# EAGLE library part ARDUINO_MICRO (library FaBo-Boards)
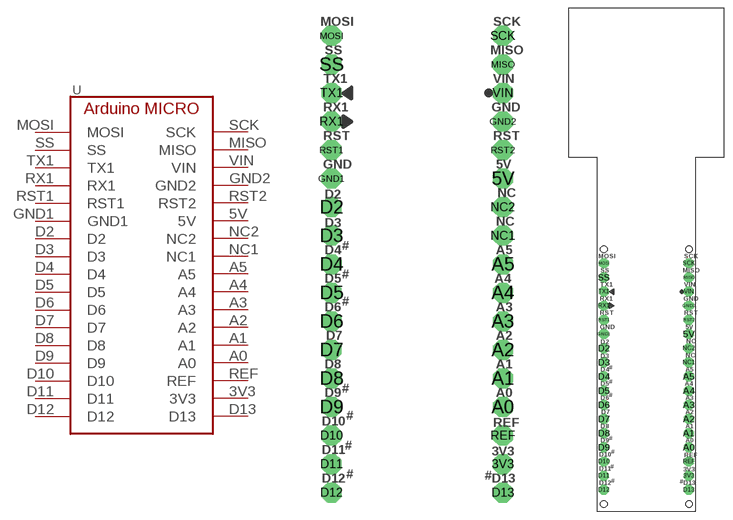
[diagram p12: symbol with the pads of ARDUINO_MICRO; footprints ARDUINO_MICRO, ARDUINO_MICRO_LORA]

Designator prefix -

## ARDUINO_MICRO  [ARDUINO_MICRO]
3V3  3V3
5V  5V
A0  A0
A1  A1
A2  A2
A3  A3
A4  A4
A5  A5
D2  D2
D3  D3
D4  D4
D5  D5
D6  D6
D7  D7
D8  D8
D9  D9
D10  D10
D11  D11
D12  D12
D13  D13
GND1  GND1
GND2  GND2
MISO  MISO
MOSI  MOSI
NC1  NC1
NC2  NC2
REF  REF
RST1  RST1
RST2  RST2
RX1  RX1
SCK  SCK
SS  SS
TX1  TX1
VIN  VIN

## ARDUINO_MICRO_LORA  [ARDUINO_MICRO_LORA]
Pads as for ARDUINO_MICRO

## ARDUINO_MICRO_BOARD  [ARDUINO_MICRO_BOARD]
Pads as for ARDUINO_MICRO

## Footprint ARDUINO_MICRO (pad centres in mm)
drill 1 pad 1.778 octagon: 3V3 7.62,-20.32; 5V 7.62,5.08; A0 7.62,-15.24; A1 7.62,-12.7; A2 7.62,-10.16; A3 7.62,-7.62; A4 7.62,-5.08; A5 7.62,-2.54; D2 -7.62,2.54; D3 -7.62,0; D4 -7.62,-2.54; D5 -7.62,-5.08; D6 -7.62,-7.62; D7 -7.62,-10.16; D8 -7.62,-12.7; D9 -7.62,-15.24; D10 -7.62,-17.78; D11 -7.62,-20.32; D12 -7.62,-22.86; D13 7.62,-22.86; GND1 -7.62,5.08; GND2 7.62,10.16; MISO 7.62,15.24; MOSI -7.62,17.78; NC1 7.62,0; NC2 7.62,2.54; REF 7.62,-17.78; RST1 -7.62,7.62; RST2 7.62,7.62; RX1 -7.62,10.16; SCK 7.62,17.78; SS -7.62,15.24; TX1 -7.62,12.7; VIN 7.62,12.7

## Footprint ARDUINO_MICRO_LORA (pad centres in mm)
drill 1 pad 1.778 octagon: 3V3 6.35,-24.13; 5V 6.35,1.27; A0 6.35,-19.05; A1 6.35,-16.51; A2 6.35,-13.97; A3 6.35,-11.43; A4 6.35,-8.89; A5 6.35,-6.35; D2 -8.89,-1.27; D3 -8.89,-3.81; D4 -8.89,-6.35; D5 -8.89,-8.89; D6 -8.89,-11.43; D7 -8.89,-13.97; D8 -8.89,-16.51; D9 -8.89,-19.05; D10 -8.89,-21.59; D11 -8.89,-24.13; D12 -8.89,-26.67; D13 6.35,-26.67; GND1 -8.89,1.27; GND2 6.35,6.35; MISO 6.35,11.43; MOSI -8.89,13.97; NC1 6.35,-3.81; NC2 6.35,-1.27; REF 6.35,-21.59; RST1 -8.89,3.81; RST2 6.35,3.81; RX1 -8.89,6.35; SCK 6.35,13.97; SS -8.89,11.43; TX1 -8.89,8.89; VIN 6.35,8.89
hole 1.2 at -8.89,-29.216
hole 1.2 at 6.35,-29.216
hole 1.2 at -8.89,16.504
hole 1.2 at 6.35,16.504

## Footprint ARDUINO_MICRO_BOARD (pad centres in mm)
drill 1 pad 1.778 octagon: 3V3 6.35,-24.13; 5V 6.35,1.27; A0 6.35,-19.05; A1 6.35,-16.51; A2 6.35,-13.97; A3 6.35,-11.43; A4 6.35,-8.89; A5 6.35,-6.35; D2 -8.89,-1.27; D3 -8.89,-3.81; D4 -8.89,-6.35; D5 -8.89,-8.89; D6 -8.89,-11.43; D7 -8.89,-13.97; D8 -8.89,-16.51; D9 -8.89,-19.05; D10 -8.89,-21.59; D11 -8.89,-24.13; D12 -8.89,-26.67; D13 6.35,-26.67; GND1 -8.89,1.27; GND2 6.35,6.35; MISO 6.35,11.43; MOSI -8.89,13.97; NC1 6.35,-3.81; NC2 6.35,-1.27; REF 6.35,-21.59; RST1 -8.89,3.81; RST2 6.35,3.81; RX1 -8.89,6.35; SCK 6.35,13.97; SS -8.89,11.43; TX1 -8.89,8.89; VIN 6.35,8.89
hole 1.2 at -8.89,-29.216
hole 1.2 at 6.35,-29.216
hole 1.2 at -8.89,16.504
hole 1.2 at 6.35,16.504